# EAGLE library part VNC2-32 (library FaBo-USB)
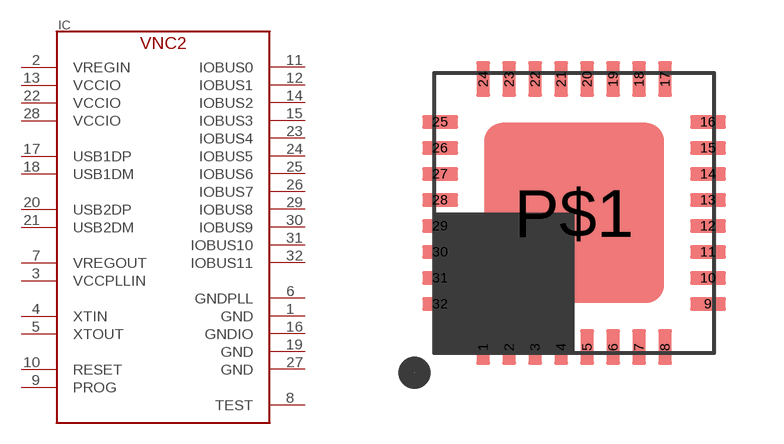
[diagram p4: symbol with the pads of QFN-32_VNC2; footprint QFN-32_VNC2]

Designator prefix IC

## VNC2-32Q1B  [QFN-32_VNC2]
1  GND
2  VREGIN
3  VCCPLLIN
4  XTIN
5  XTOUT
6  GNDPLL
7  VREGOUT
8  TEST
9  PROG
10  RESET
11  IOBUS0
12  IOBUS1
13  VCCIO
14  IOBUS2
15  IOBUS3
16  GNDIO
17  USB1DP
18  USB1DM
19  GND
20  USB2DP
21  USB2DM
22  VCCIO
23  IOBUS4
24  IOBUS5
25  IOBUS6
26  IOBUS7
27  GND
28  VCCIO
29  IOBUS8
30  IOBUS9
31  IOBUS10
32  IOBUS11

## Footprint QFN-32_VNC2 (pad centres in mm)
smd 0.35 x 0.9: 1 -2.275,-3.35; 2 -1.625,-3.35; 3 -0.975,-3.35; 4 -0.325,-3.35; 5 0.325,-3.35; 6 0.975,-3.35; 7 1.625,-3.35; 8 2.275,-3.35; 17 2.275,3.35; 18 1.625,3.35; 19 0.975,3.35; 20 0.325,3.35; 21 -0.325,3.35; 22 -0.975,3.35; 23 -1.625,3.35; 24 -2.275,3.35
smd 0.9 x 0.35: 9 3.35,-2.275; 10 3.35,-1.625; 11 3.35,-0.975; 12 3.35,-0.325; 13 3.35,0.325; 14 3.35,0.975; 15 3.35,1.625; 16 3.35,2.275; 25 -3.35,2.275; 26 -3.35,1.625; 27 -3.35,0.975; 28 -3.35,0.325; 29 -3.35,-0.325; 30 -3.35,-0.975; 31 -3.35,-1.625; 32 -3.35,-2.275
smd 4.5 x 4.5: P$1 0,0